# EAGLE library part MAX3051ESA (library MAX3051ESA)
Can bus transciever Mfg.: Maxim, Pkg.: SO-8, Mfg. Part No.: MAX3051ESA+T, Digikey Part No.: MAX3051ESA+CT-ND Datasheet: http://datasheets.maximintegrated.com/en/ds/MAX3051.pdf
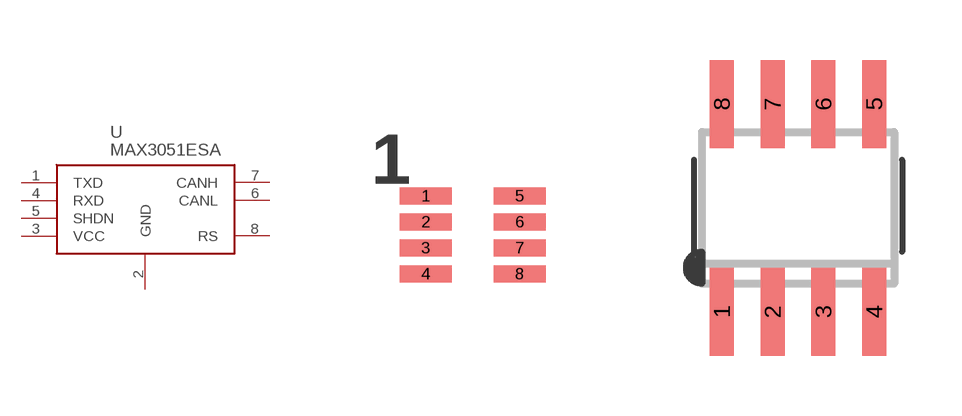
[diagram p0: symbol with the pads of SOT-23-8; footprints SOT-23-8, SO8]

Designator prefix U

## MAX3051ESAEKA+T  [SOT-23-8]
1  TXD
2  GND
3  VCC
4  RXD
5  SHDN
6  CANL
7  CANH
8  RS

## MAX3051ESAESA+  [SO8]
Pads as for SOT-23-8

## Footprint SOT-23-8 (pad centres in mm)
Can Bus Transceiver
smd 1.3 x 0.42: 1 -1.175,0.975; 2 -1.175,0.325; 3 -1.174,-0.325; 4 -1.175,-0.975; 5 1.175,0.975; 6 1.175,0.325; 7 1.174,-0.325; 8 1.175,-0.975

## Footprint SO8 (pad centres in mm)
8-Lead Small Outline IC (SO-8) Source: http://www.analog.com/UploadedFiles/Data_Sheets/703465986AD8611_2_0.pdf
smd 0.6 x 2.2: 1 -1.905,-2.6; 2 -0.635,-2.6; 3 0.635,-2.6; 4 1.905,-2.6; 5 1.905,2.6; 6 0.635,2.6; 7 -0.635,2.6; 8 -1.905,2.6